# Altium schematic symbol library SS-12D10拨码开关.SCHLIB: 1 symbol
Pins are listed as number, name and electrical type; pins without a type are passive.

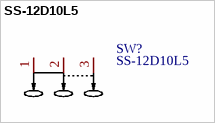
[diagram p0: symbol SS-12D10L5]

## SS-12D10L5
designator SW?
Manufacturer: XKB Connectivity(�й�����); Add into BOM: yes; Circuit: ����˫��; Actuator Style: ������״; Pin Style: PC����; Switch Length: 13mm; Switch Width: 6.8mm; Switch Height: 6.4mm; Actuator Color: ��ɫ; Current Rating (DC): 3A; Voltage Rating (DC): 125V; Mechanical Life: 1���; Symbol: SS-12D10L5; Device: SS-12D10L5; Supplier: LCSC; Supplier Part: C319012; Manufacturer Part: SS-12D10L5; JLCPCB Part Class: ��չ��; LCSC Part Name: ����5mm ֱ��˫�� ��������; Supplier Footprint: ���; Datasheet: https://atta.szlcsc.com/upload/public/pdf/source/20211009/D6412F37AABE6F9459A6EE7FA4DAEADB.pdf; Convert to PCB: yes; Mounting Style: ֱ��; Current Rating (AC): 3A; Voltage Rating (AC): 125V; Operating Temperature: -40��~+85��; Name: SS-12D10L5
footprint SW-TH_SS-12D10L5
pins: 1, 2, 3